# Altium footprint library Planck-Pi-DK.PcbLib: 20 footprints (part 2 of 2)
Each footprint in its own frame and in the unit in brackets; x right, y up, seen from the top. Pads: shape width x height; smd on the part's side, far side on the other; paste and mask are expansions set on the pad; w line width, h text height; cw(c..) or ccw(c..) is an arc to the next point about the centre after c.
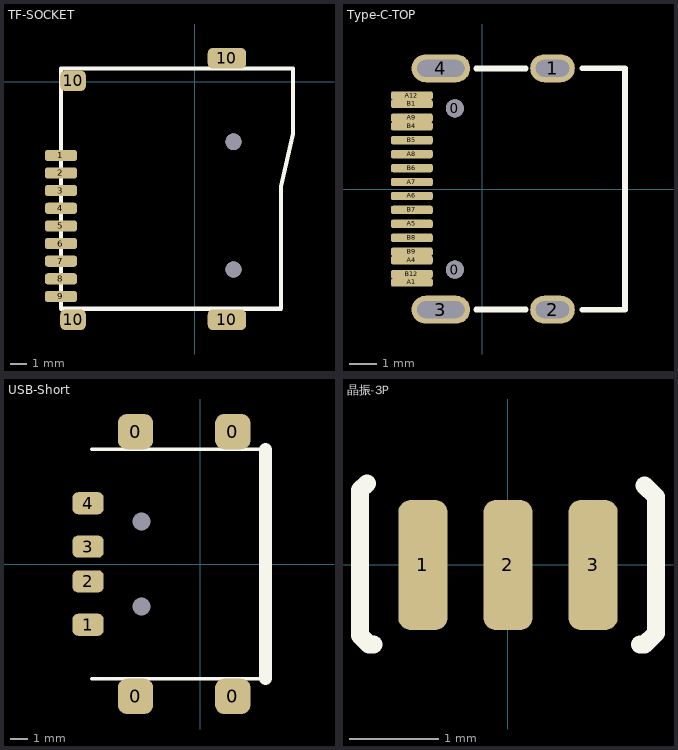
[diagram p1: the footprints below, top view; thin cyan lines are the x and y axes]

## TF-SOCKET [mm]
height 4.3
pads (13):
  rrect50% 2x0.7 smd: 1(-8.331,-4.582) 2(-8.331,-5.682) 3(-8.331,-6.782) 4(-8.331,-7.882) 5(-8.331,-8.982) 6(-8.331,-10.082) 7(-8.331,-11.182) 8(-8.331,-12.282) 9(-8.331,-13.382)
  rrect50% 1.6x1.27 smd: 10(-7.577,-14.836) 10(-7.577,0.068)
  rrect50% 2.4x1.27 smd: 10(2.023,-14.836) 10(2.023,1.476)
via 2.423,-11.712 diameter 1 hole 1
via 2.423,-3.732 diameter 1 hole 1
Top Overlay:
  lines w0.254: -8.331,-14.148 5.385,-14.148 5.385,-6.528 6.147,-3.226 6.147,0.838 -8.331,0.838 -8.331,-14.148
3D body "123.stp": height 2.05, standoff 0.07, extent -8.871,-14.809 8.179,1.291

## Type-C-TOP [mm]
height 4.3
pads (22):
  round 0.65 hole 0.65: 0(-0.98,-2.89) 0(-0.98,2.89)
  oval 1.6x1 hole 0.6 slot 1.2 at 0 deg: 1(2.52,4.325) 2(2.52,-4.325)
  oval 2.1x1 hole 0.6 slot 1.7 at 0 deg: 3(-1.48,-4.325) 4(-1.48,4.325)
  rrect50% 1.5x0.3 smd: A1(-2.52,-3.35) A4(-2.52,-2.55) A5(-2.52,-1.25) A6(-2.52,-0.25) A7(-2.52,0.25) A8(-2.52,1.25) A9(-2.52,2.55) A12(-2.52,3.35) B1(-2.52,3.05) B4(-2.52,2.25) B5(-2.52,1.75) B6(-2.52,0.75) B7(-2.52,-0.75) B8(-2.52,-1.75) B9(-2.52,-2.25) B12(-2.52,-3.05)
Top Overlay:
  lines w0.203: -0.218,-4.318 1.56,-4.318 ; -0.218,4.318 1.56,4.318 ; 3.592,-4.325 5.12,-4.325 5.12,4.325 3.592,4.325
3D body "1.step": height 3.26, standoff -1, extent -2.568,-4.475 5.182,4.475

## USB-Short [mm]
pads (10):
  rrect50% 2.032x2.032 smd: 0(-3.738,-7.625) 0(-3.738,7.625) 0(1.862,-7.625) 0(1.862,7.625)
  rrect50% 1.8x1.27 smd: 1(-6.476,-3.5) 2(-6.476,-1) 3(-6.476,1) 4(-6.476,3.5)
  round 0.6 hole 1.016 unplated: MH1(-3.4,2.45) MH2(-3.4,-2.45)
Top Overlay:
  lines w0.2: -6.25,-6.6 -0.6,-6.6 3.75,-6.6 ; -6.25,6.6 -0.6,6.6 3.75,6.6
  lines w0.762: 3.75,-6.6 3.75,6.6
3D body "1.stp": height 6.4, standoff -0.1, extent -6.855,-8.629 4.207,8.607

## 晶振-3P [mm] "贴片晶振"
height 4.3
pads (3):
  rrect50% 0.55x1.45 smd: 1(-0.95,0) 2(0,0) 3(0.95,0)
Top Overlay:
  lines w0.2: -1.576,0.911 -1.651,0.836 -1.651,-0.789 -1.551,-0.889 -1.501,-0.889 ; 1.474,-0.889 1.524,-0.889 1.651,-0.762 1.651,0.762 1.524,0.889
3D body "123123123.stp": height 0.7, standoff 0, extent -1.6,-0.65 1.6,0.65
3D body: height 0, standoff 0, extent 1.474,-0.89 1.652,0.89
3D body: height 0, standoff 0, extent 1.474,-0.89 1.652,0.89